# Altium footprint library PCB - OPTOISOLATOR - BROADCOM SOIC-4.PcbLib: 1 footprints
Each footprint in its own frame and in the unit in brackets; x right, y up, seen from the top. Pads: shape width x height; smd on the part's side, far side on the other; paste and mask are expansions set on the pad; w line width, h text height; cw(c..) or ccw(c..) is an arc to the next point about the centre after c.
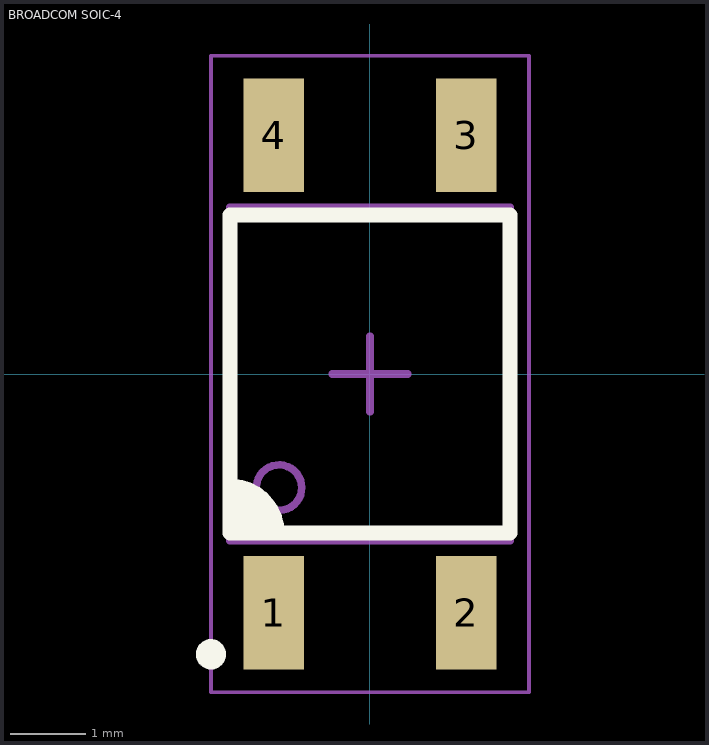
[diagram p0: the footprint, top view; thin cyan lines are the x and y axes]

## BROADCOM SOIC-4 [mm] "Optoisolator Transistor Output 3750Vrms 1 Channel, 2.54mm Pitch, 4.4x3.7 mm Body, 4-SOIC Package"
height 2.4
pads (4):
  rect 0.8x1.5 smd: 1(-1.27,-3.15) 2(1.27,-3.15) 3(1.27,3.15) 4(-1.27,3.15)
Top Overlay:
  circle w0.2: c-2.1,-3.7 r0.1
  region: -1.85,-1.425 -1.85,-2.1 -1.2,-2.1 -1.2,-2 -1.2,-1.886 -1.288,-1.674 -1.449,-1.513 -1.661,-1.425 -1.775,-1.425
  lines w0.1: -1.802,-1.429 cw(c-1.849,-2.1) -1.177,-2.1
  lines w0.2: -1.849,-2.1 1.849,-2.1 1.849,0 1.849,2.1 -1.849,2.1 -1.849,0 -1.849,-2.1
Mechanical 13:
  circle w0.1: c-1.2,-1.5 r0.3
  lines w0.1: -1.849,-2.2 1.849,-2.2 1.849,0 1.849,2.2 -1.849,2.2 -1.849,0 -1.849,-2.2
Mechanical 15 (Mech15):
  lines w0.05: -2.1,-4.2 -2.1,4.2 2.1,4.2 2.1,-4.2 -2.1,-4.2
  lines w0.1: -0.5,0 0,0 ; 0,-0.5 0,0 ; 0,0.5 0,0 ; 0.5,0 0,0
3D body "Broadcom -SOIC-4 v3.step": height 2.4, standoff 0, extent -1.849,-3.5 1.849,3.5